# Altium schematic symbol library LED.SchLib: 10 symbols
Pins are listed as number, name and electrical type; pins without a type are passive.

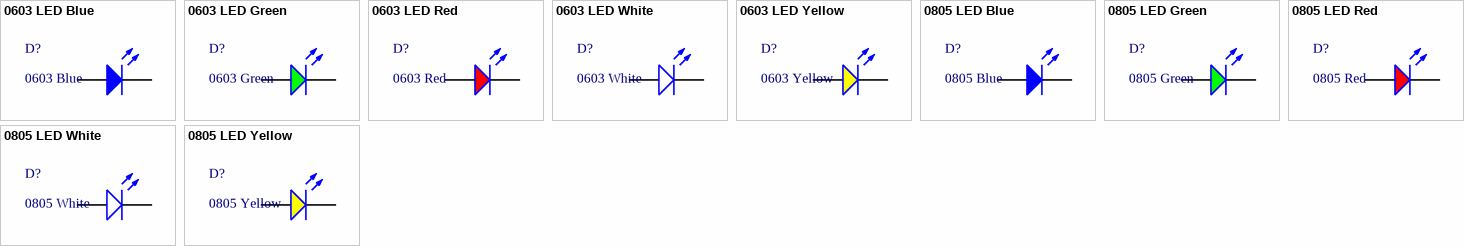
[diagram p0: symbols 0603 LED Blue to 0805 LED Yellow]

## 0603 LED Blue
designator D?, comment 0603 Blue
LED; ComponentLink1Description: 供应商链接; ComponentLink1URL: http://www.szlcsc.com/product/details_73150.html; Package: 0603; Supplier: LC; SuppliersPartNumber: C72041; Color: Blue
footprint 0603_LED_S1
pins: A, K

## 0603 LED Green
designator D?, comment 0603 Green
LED; ComponentLink1Description: 供应商链接; ComponentLink1URL: http://www.szlcsc.com/product/details_73152.html; Package: 0603; Supplier: LC; SuppliersPartNumber: C72043; Color: Green
footprint 0603_LED_S1
pins: A, K

## 0603 LED Red
designator D?, comment 0603 Red
LED; ComponentLink1Description: 供应商链接; ComponentLink1URL: http://www.szlcsc.com/product/details_2659.html; Package: 0603; Supplier: LC; SuppliersPartNumber: C2286; Color: Red
footprint 0603_LED_S1
pins: A, K

## 0603 LED White
designator D?, comment 0603 White
LED; ComponentLink1Description: 供应商链接; ComponentLink1URL: http://www.szlcsc.com/product/details_2663.html; Package: 0603; Supplier: LC; SuppliersPartNumber: C2290; Color: White
footprint 0603_LED_S1
pins: A, K

## 0603 LED Yellow
designator D?, comment 0603 Yellow
LED; ComponentLink1Description: 供应商链接; ComponentLink1URL: http://www.szlcsc.com/product/details_73147.html; Package: 0603; Supplier: LC; SuppliersPartNumber: C72038; Color: Yellow
footprint 0603_LED_S1
pins: A, K

## 0805 LED Blue
designator D?, comment 0805 Blue
LED; ComponentLink1Description: 供应商链接; ComponentLink1URL: http://www.szlcsc.com/product/details_2666.html; Package: 0805; Supplier: LC; SuppliersPartNumber: C2293; Color: Blue
footprint 0805_LED_S1
pins: A, K

## 0805 LED Green
designator D?, comment 0805 Green
LED; ComponentLink1Description: 供应商链接; ComponentLink1URL: http://www.szlcsc.com/product/details_2670.html; Package: 0805; Supplier: LC; SuppliersPartNumber: C2297; Color: Green
footprint 0805_LED_S1
pins: A, K

## 0805 LED Red
designator D?, comment 0805 Red
LED; PartNumber: FC-2012HRK-620D; Manufacturer: Foshan NationStar Optoelectronics; ComponentLink1Description: 供应商链接; ComponentLink1URL: http://www.szlcsc.com/product/details_2668.html; Package: 0805; Supplier: LC; SuppliersPartNumber: C84256; Color: Red
footprint 0805_LED_S1
pins: A, K

## 0805 LED White
designator D?, comment 0805 White
LED; ComponentLink1Description: 供应商链接; ComponentLink1URL: http://www.szlcsc.com/product/details_35468.html; Package: 0805; Supplier: LC; SuppliersPartNumber: C34499; Color: White
footprint 0805_LED_S1
pins: A, K

## 0805 LED Yellow
designator D?, comment 0805 Yellow
LED; PartNumber: 17-21SUYC/TR8; ComponentLink1Description: 供应商链接; ComponentLink1URL: http://www.szlcsc.com/product/details_2669.html; Package: 0805; Supplier: LC; SuppliersPartNumber: C2296; Color: Yellow
footprint 0805_LED_S1
pins: A, K